# EAGLE library part 7508112510 (library WE-OLEFD)
WE-OLEFD EFD-Style Offline Flyback Transformers Characteristics Universal input voltage Switching frequency: 68kHz to 170kHz Low Profile Isolation voltage: 4500VAC at 1 second Operating temp: -40°C to +125��C Designed for IEC61558-2 Reinforced 400VDC Applications LED lighting Offline switching power Power electronics Electronics ballasts White goods <https://www.we-online.com/catalog/media/o32905v209%20Family_MID-OLEFD.jpg> Details see: www.we-online.com/en/components/products/WE-OLEFD Created by Ella Wu 2023-04-11 2023 (C) Wurth Elektronik
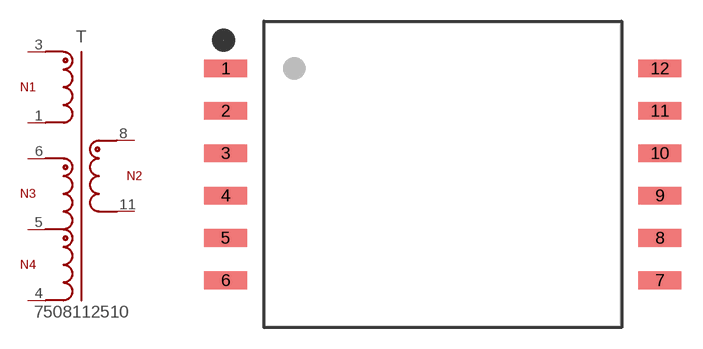
[diagram p12: symbol with the pads of WE-OLEFD_EFD20_SMT; footprint WE-OLEFD_EFD20_SMT]

Designator prefix T

## 7508112510 (DATASHEET-URL: https://www.we-online.com/redexpert/spec/7508112510?ae; F-SWTICH: 68 - 120kHz; HEIGHT: 12mm; IOUT1: 0.75A; ISAT1: 1.4A; L1: 800µH; LENGTH: 21.5mm; MOUNT: SMT; N: 20:4.8:2.2:1; PART-NUMBER: 7508112510; VALUE: 7508112510; VAUX: 20V; VAUX1: 6V; VAUX2: 14V; VIN: 85 - 265 V (AC); VOUT1: 32V; VT: 4500 V (AC); WIDTH: 33.8mm)  [WE-OLEFD_EFD20_SMT]
1  1  pas
3  3  pas
4  4  pas
5  5  pas
6  6  pas
8  8  pas
11  11  pas

## Footprint WE-OLEFD_EFD20_SMT (pad centres in mm)
WE-OLEE EE-Style Offline Flyback Transformers Size: EFD20,SMT,12pins LXWXH=21.5X33.8X12mm
smd 3.05 x 1.25: 1 -15.36,7.5; 2 -15.36,4.5; 3 -15.36,1.5; 4 -15.36,-1.5; 5 -15.36,-4.5; 6 -15.36,-7.5; 7 15.36,-7.5; 8 15.36,-4.5; 9 15.36,-1.5; 10 15.36,1.5; 11 15.36,4.5; 12 15.36,7.5